# Altium footprint library STM32_PCB_Design.PcbLib: 13 footprints
Each footprint in its own frame and in the unit in brackets; x right, y up, seen from the top. Pads: shape width x height; smd on the part's side, far side on the other; paste and mask are expansions set on the pad; w line width, h text height; cw(c..) or ccw(c..) is an arc to the next point about the centre after c.
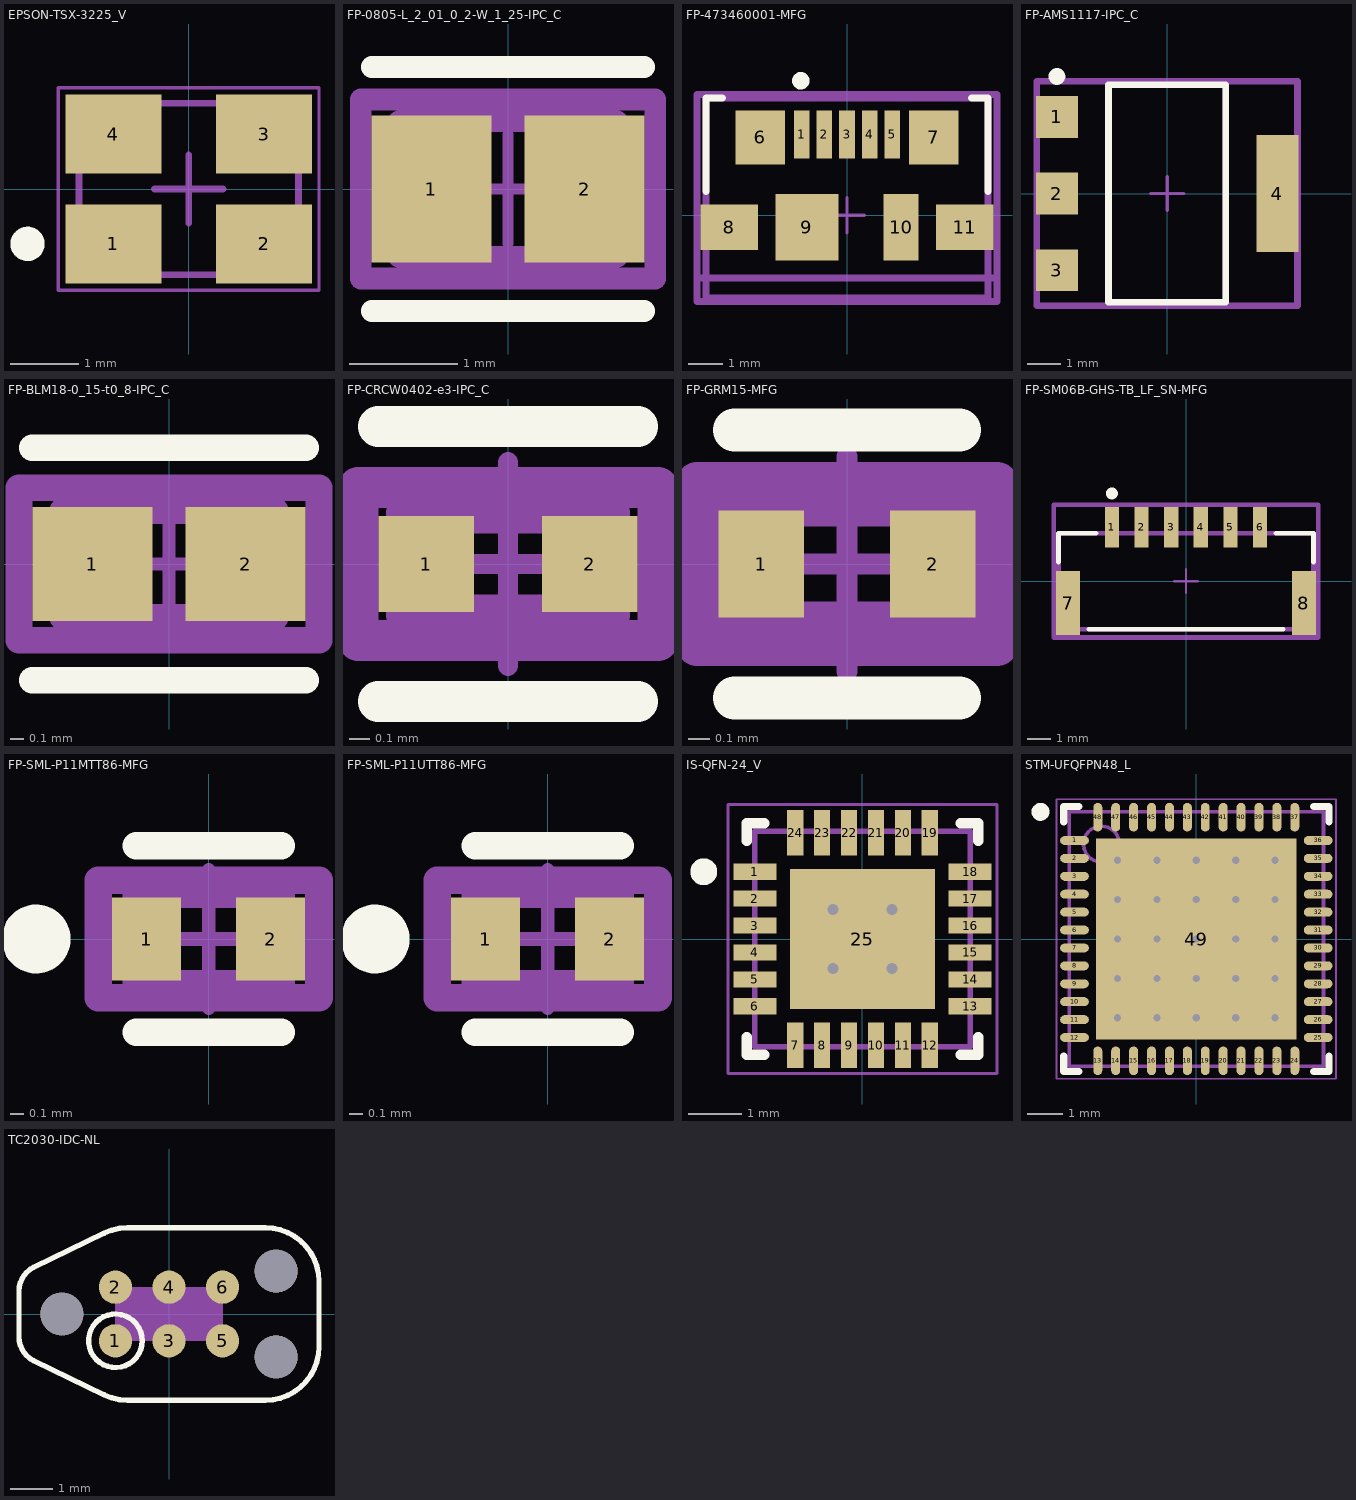
[diagram p0: the footprints below, top view; thin cyan lines are the x and y axes]

## EPSON-TSX-3225_V [mm] "SMD, 4-Leads, Body 3.2x2.5mm"
height 0.6
pads (4):
  rect 1.4x1.15 smd: 1(-1.1,-0.8) 2(1.1,-0.8) 3(1.1,0.8) 4(-1.1,0.8)
Top Overlay:
  circle w0.25: c-2.35,-0.8 r0.125
Top 3D Body:
  lines w0.1: -1.6,-1.25 -1.6,1.25 1.6,1.25 1.6,-1.25 -1.6,-1.25
Top Courtyard:
  lines w0.05: -1.9,-1.475 1.9,-1.475 1.9,1.475 -1.9,1.475 -1.9,-1.475
  lines w0.1: -0.5,0 0.5,0 ; 0,-0.5 0,0.5
3D body: height 0.6, standoff 0, extent -1.6,-1.25 1.6,1.25

## FP-0805-L_2_01_0_2-W_1_25-IPC_C [mm]
height 5.08
pads (2):
  rect 1.105x1.356 smd paste+0 mask+0: 1(-0.706,0) 2(0.706,0)
Top Overlay:
  lines w0.2: -1.258,-1.125 1.258,-1.125 ; -1.258,1.125 1.258,1.125
Top Assembly:
  lines w0.2: -1.358,-0.825 1.358,-0.825 1.358,0.825 -1.358,0.825 -1.358,-0.825
  text ".Designator" at 0,0.188 h1
Top 3D Body:
  lines w0.2: -1.005,-0.625 1.005,-0.625 1.005,0.625 -1.005,0.625 -1.005,-0.625
Top Courtyard:
  lines w0.2: -1.358,-0.825 1.358,-0.825 1.358,0.825 -1.358,0.825 -1.358,-0.825
Top Component Center:
  lines w0.1: -0.5,0 0.5,0 ; 0,-0.5 0,0.5
3D body "Cap_AVX_0805YA0R5BAT2A_eec.STEP": height 0.25, standoff 0, extent -1.358,-0.825 1.358,0.825

## FP-473460001-MFG [mm]
height 5.08
pads (11):
  rect 0.45x1.38 smd paste+0 mask+0: 1(-1.3,2.31) 2(-0.65,2.31) 3(0,2.31) 4(0.65,2.31) 5(1.3,2.31)
  rect 1.425x1.55 smd paste+0 mask+0: 6(-2.488,2.225) 7(2.488,2.225)
  rect 1.65x1.3 smd paste+0 mask+0: 8(-3.375,-0.35) 11(3.375,-0.35)
  rect 1.8x1.9 smd paste+0 mask+0: 9(-1.15,-0.35)
  rect 1x1.9 smd paste+0 mask+0: 10(1.55,-0.35)
Top Overlay:
  circle w0.25: c-1.325,3.85 r0.125
  lines w0.2: -4.045,0.675 -4.045,3.35 -3.575,3.35 ; 3.575,3.35 4.045,3.35 4.045,0.675
Top Assembly:
  lines w0.2: -4.3,-2.48 -4.3,3.45 4.3,3.45 4.3,-2.48 -4.3,-2.48
  text ".Designator" at 0,0.673 h1
Top 3D Body:
  lines w0.2: -4.3,-1.8 4.3,-1.8 ; -4.045,-2.38 -4.045,3.35 4.045,3.35 4.045,-2.38 -4.045,-2.38
Top Courtyard:
  lines w0.2: -4.3,-2.48 -4.3,3.45 4.3,3.45 4.3,-2.48 -4.3,-2.48
Top Component Center:
  lines w0.1: -0.5,0 0.5,0 ; 0,-0.5 0,0.5
3D body "Conn_Molex_473460001_eec.STEP": height 0.25, standoff 0, extent -4.3,-2.48 4.3,3.45

## FP-AMS1117-IPC_C [mm]
height 5.08
pads (4):
  rect 1.25x1.25 smd paste+0 mask+0: 1(-3.295,2.29) 2(-3.295,0) 3(-3.295,-2.29)
  rect 1.25x3.5 smd paste+0 mask+0: 4(3.295,0)
Top Overlay:
  circle w0.25: c-3.295,3.5 r0.125
  lines w0.2: -1.753,-3.253 1.753,-3.253 1.753,3.253 -1.753,3.253 -1.753,-3.253
Top Assembly:
  lines w0.2: -3.897,-3.353 3.897,-3.353 3.897,3.353 -3.897,3.353 -3.897,-3.353
  text ".Designator" at 0,0.188 h1
Top 3D Body:
  lines w0.2: -1.753,-3.253 1.753,-3.253 1.753,3.253 -1.753,3.253 -1.753,-3.253
Top Courtyard:
  lines w0.2: -3.897,-3.353 3.897,-3.353 3.897,3.353 -3.897,3.353 -3.897,-3.353
Top Component Center:
  lines w0.1: -0.5,0 0.5,0 ; 0,-0.5 0,0.5
3D body "IC_Advanced_Monolithic_Systems_AMS1117-3_3_eec.STEP": height 0.25, standoff 0, extent -3.897,-3.353 3.897,3.353

## FP-BLM18-0_15-t0_8-IPC_C [mm]
height 5.08
pads (2):
  rect 0.906x0.858 smd paste+0 mask+0: 1(-0.576,0) 2(0.576,0)
Top Overlay:
  lines w0.2: -1.029,-0.875 1.029,-0.875 ; -1.029,0.875 1.029,0.875
Top Assembly:
  lines w0.2: -1.129,-0.575 1.129,-0.575 1.129,0.575 -1.129,0.575 -1.129,-0.575
  text ".Designator" at 0,0.188 h1
Top 3D Body:
  lines w0.2: -0.8,-0.4 0.8,-0.4 0.8,0.4 -0.8,0.4 -0.8,-0.4
Top Courtyard:
  lines w0.2: -1.129,-0.575 1.129,-0.575 1.129,0.575 -1.129,0.575 -1.129,-0.575
Top Component Center:
  lines w0.1: -0.5,0 0.5,0 ; 0,-0.5 0,0.5
3D body "FBead_Murata_BLM18EG221SN1D_eec.STEP": height 0.25, standoff 0, extent -1.129,-0.575 1.129,0.575

## FP-CRCW0402-e3-IPC_C [mm]
height 5.08
pads (2):
  rect 0.468x0.472 smd paste+0 mask+0: 1(-0.402,0) 2(0.402,0)
Top Overlay:
  lines w0.2: -0.636,-0.675 0.636,-0.675 ; -0.636,0.675 0.636,0.675
Top Assembly:
  lines w0.2: -0.736,-0.375 0.736,-0.375 0.736,0.375 -0.736,0.375 -0.736,-0.375
  text ".Designator" at 0,0.188 h1
Top 3D Body:
  lines w0.2: -0.5,-0.25 0.5,-0.25 0.5,0.25 -0.5,0.25 -0.5,-0.25
Top Courtyard:
  lines w0.2: -0.736,-0.375 0.736,-0.375 0.736,0.375 -0.736,0.375 -0.736,-0.375
Top Component Center:
  lines w0.1: -0.5,0 0.5,0 ; 0,-0.5 0,0.5
3D body "Res_Vishay_CRCW04021K00FKED_eec.STEP": height 0.25, standoff 0, extent -0.736,-0.375 0.736,0.375

## FP-GRM15-MFG [mm]
height 5.08
pads (2):
  rect 0.4x0.5 smd paste+0 mask+0: 1(-0.4,0) 2(0.4,0)
Top Overlay:
  lines w0.2: -0.525,-0.625 0.525,-0.625 ; -0.525,0.625 0.525,0.625
Top Assembly:
  lines w0.2: -0.7,-0.375 -0.7,0.375 0.7,0.375 0.7,-0.375 -0.7,-0.375
  text ".Designator" at 0,0.188 h1
Top 3D Body:
  lines w0.2: -0.525,-0.275 -0.525,0.275 0.525,0.275 0.525,-0.275 -0.525,-0.275
Top Courtyard:
  lines w0.2: -0.7,-0.375 -0.7,0.375 0.7,0.375 0.7,-0.375 -0.7,-0.375
Top Component Center:
  lines w0.1: -0.5,0 0.5,0 ; 0,-0.5 0,0.5
3D body "Cap_Murata_GRM155R71C104KA88D_eec.STEP": height 0.25, standoff 0, extent -0.7,-0.375 0.7,0.375

## FP-SM06B-GHS-TB_LF_SN-MFG [mm]
height 5.08
pads (8):
  rect 0.6x1.7 smd paste+0 mask+0: 1(-3.125,2.275) 2(-1.875,2.275) 3(-0.625,2.275) 4(0.625,2.275) 5(1.875,2.275) 6(3.125,2.275)
  rect 1x2.7 smd paste+0 mask+0: 7(-4.975,-0.925) 8(4.975,-0.925)
Top Overlay:
  circle w0.25: c-3.125,3.7 r0.125
  lines w0.2: -5.375,0.8 -5.375,2.025 -3.8,2.025 ; -4.1,-2.025 4.1,-2.025 ; 3.8,2.025 5.375,2.025 5.375,0.8
Top Assembly:
  lines w0.2: -5.575,-2.375 -5.575,3.225 5.575,3.225 5.575,-2.375 -5.575,-2.375
  text ".Designator" at 0,0.613 h1
Top 3D Body:
  lines w0.2: -5.375,-2.025 -5.375,2.025 5.375,2.025 5.375,-2.025 -5.375,-2.025
Top Courtyard:
  lines w0.2: -5.575,-2.375 -5.575,3.225 5.575,3.225 5.575,-2.375 -5.575,-2.375
Top Component Center:
  lines w0.1: -0.5,0 0.5,0 ; 0,-0.5 0,0.5
3D body "Conn_JST_SM06B-GHS-TB_LF_SN_eec.STEP": height 0.25, standoff 0, extent -5.575,-2.375 5.575,3.225

## FP-SML-P11MTT86-MFG [mm]
height 5.08
pads (2):
  rect 0.5x0.6 smd paste+0 mask+0: 1(-0.45,0) 2(0.45,0)
Top Overlay:
  circle w0.25: c-1.25,0 r0.125
  lines w0.2: -0.525,-0.675 0.525,-0.675 ; -0.525,0.675 0.525,0.675
Top Assembly:
  lines w0.2: -0.8,-0.425 -0.8,0.425 0.8,0.425 0.8,-0.425 -0.8,-0.425
  text ".Designator" at 0,-0.001 h1
Top 3D Body:
  lines w0.2: -0.525,-0.325 -0.525,0.325 0.525,0.325 0.525,-0.325 -0.525,-0.325
Top Courtyard:
  lines w0.2: -0.8,-0.425 -0.8,0.425 0.8,0.425 0.8,-0.425 -0.8,-0.425
Top Component Center:
  lines w0.1: -0.5,0 0.5,0 ; 0,-0.5 0,0.5
3D body "Diode_ROHM_SML-P11MTT86_eec.STEP": height 0.25, standoff 0, extent -0.8,-0.425 0.8,0.425

## FP-SML-P11UTT86-MFG [mm]
height 5.08
pads (2):
  rect 0.5x0.6 smd paste+0 mask+0: 1(-0.45,0) 2(0.45,0)
Top Overlay:
  circle w0.25: c-1.25,0 r0.125
  lines w0.2: -0.525,-0.675 0.525,-0.675 ; -0.525,0.675 0.525,0.675
Top Assembly:
  lines w0.2: -0.8,-0.425 -0.8,0.425 0.8,0.425 0.8,-0.425 -0.8,-0.425
  text ".Designator" at 0,-0.001 h1
Top 3D Body:
  lines w0.2: -0.525,-0.325 -0.525,0.325 0.525,0.325 0.525,-0.325 -0.525,-0.325
Top Courtyard:
  lines w0.2: -0.8,-0.425 -0.8,0.425 0.8,0.425 0.8,-0.425 -0.8,-0.425
Top Component Center:
  lines w0.1: -0.5,0 0.5,0 ; 0,-0.5 0,0.5
3D body "Diode_ROHM_SML-P11UTT86_eec.STEP": height 0.25, standoff 0, extent -0.8,-0.425 0.8,0.425

## IS-QFN-24_V [mm] "QFN, 24-Leads, Body 4x4mm, Pitch 0.5mm, Thermal Pad 2.7x2.6mm"
height 0.95
pads (25):
  rect 0.8x0.3 smd: 1(-2,1.25) 2(-2,0.75) 3(-2,0.25) 4(-2,-0.25) 5(-2,-0.75) 6(-2,-1.25) 13(2,-1.25) 14(2,-0.75) 15(2,-0.25) 16(2,0.25) 17(2,0.75) 18(2,1.25)
  rect 0.3x0.85 smd mask+0.102: 7(-1.25,-1.975) 8(-0.75,-1.975) 9(-0.25,-1.975) 10(0.25,-1.975) 11(0.75,-1.975) 12(1.25,-1.975) 19(1.25,1.975) 20(0.75,1.975) 21(0.25,1.975) 22(-0.25,1.975) 23(-0.75,1.975) 24(-1.25,1.975)
  rect 2.7x2.6 smd: 25(0,0)
via -0.55,-0.55 diameter 0.5 hole 0.2
via 0.55,-0.55 diameter 0.5 hole 0.2
via 0.55,0.55 diameter 0.5 hole 0.2
via -0.55,0.55 diameter 0.5 hole 0.2
Top Overlay:
  circle w0.25: c-2.95,1.25 r0.125
  lines w0.2: -2.15,-1.825 -2.15,-2.15 -1.825,-2.15 ; -2.15,1.825 -2.15,2.15 -1.825,2.15 ; 1.825,-2.15 2.15,-2.15 2.15,-1.825 ; 1.825,2.15 2.15,2.15 2.15,1.825
Top 3D Body:
  lines w0.1: -2,-2 -2,2 2,2 2,-2 -2,-2
Top Courtyard:
  lines w0.05: -2.5,-2.5 2.5,-2.5 2.5,2.5 -2.5,2.5 -2.5,-2.5
  lines w0.1: -0.5,0 0.5,0 ; 0,-0.5 0,0.5
3D body: height 0.95, standoff 0, extent -1.999,-1.999 1.999,1.999

## STM-UFQFPN48_L [mm] "QFN, 48-Leads, Body 7.1x7.1mm, Pitch 0.5mm, Thermal Pad 5.6x5.6mm, IPC High Density"
height 0.6
pads (49):
  oval 0.8x0.25 smd: 1(-3.4,2.75) 2(-3.4,2.25) 3(-3.4,1.75) 4(-3.4,1.25) 5(-3.4,0.75) 6(-3.4,0.25) 7(-3.4,-0.25) 8(-3.4,-0.75) 9(-3.4,-1.25) 10(-3.4,-1.75) 11(-3.4,-2.25) 12(-3.4,-2.75) 25(3.4,-2.75) 26(3.4,-2.25) 27(3.4,-1.75) 28(3.4,-1.25) 29(3.4,-0.75) 30(3.4,-0.25) 31(3.4,0.25) 32(3.4,0.75) 33(3.4,1.25) 34(3.4,1.75) 35(3.4,2.25) 36(3.4,2.75)
  oval 0.25x0.8 smd: 13(-2.75,-3.4) 14(-2.25,-3.4) 15(-1.75,-3.4) 16(-1.25,-3.4) 17(-0.75,-3.4) 18(-0.25,-3.4) 19(0.25,-3.4) 20(0.75,-3.4) 21(1.25,-3.4) 22(1.75,-3.4) 23(2.25,-3.4) 24(2.75,-3.4) 37(2.75,3.4) 38(2.25,3.4) 39(1.75,3.4) 40(1.25,3.4) 41(0.75,3.4) 42(0.25,3.4) 43(-0.25,3.4) 44(-0.75,3.4) 45(-1.25,3.4) 46(-1.75,3.4) 47(-2.25,3.4) 48(-2.75,3.4)
  rect 5.6x5.6 smd: 49(0,0)
via 2.2,-2.2 diameter 0.5 hole 0.2
via 1.1,-2.2 diameter 0.5 hole 0.2
via 0,-2.2 diameter 0.5 hole 0.2
via -1.1,-2.2 diameter 0.5 hole 0.2
via 2.2,-1.1 diameter 0.5 hole 0.2
via 1.1,-1.1 diameter 0.5 hole 0.2
via 0,-1.1 diameter 0.5 hole 0.2
via -1.1,-1.1 diameter 0.5 hole 0.2
via -2.2,-1.1 diameter 0.5 hole 0.2
via 2.2,0 diameter 0.5 hole 0.2
via 1.1,0 diameter 0.5 hole 0.2
via 0,0 diameter 0.5 hole 0.2
via -1.1,0 diameter 0.5 hole 0.2
via -2.2,0 diameter 0.5 hole 0.2
via 2.2,1.1 diameter 0.5 hole 0.2
via 1.1,1.1 diameter 0.5 hole 0.2
via 0,1.1 diameter 0.5 hole 0.2
via -1.1,1.1 diameter 0.5 hole 0.2
via -2.2,1.1 diameter 0.5 hole 0.2
via 2.2,2.2 diameter 0.5 hole 0.2
via 1.1,2.2 diameter 0.5 hole 0.2
via 0,2.2 diameter 0.5 hole 0.2
via -1.1,2.2 diameter 0.5 hole 0.2
via -2.2,2.2 diameter 0.5 hole 0.2
via -2.2,-2.2 diameter 0.5 hole 0.2
Top Overlay:
  circle w0.25: c-4.35,3.55 r0.125
  lines w0.2: -3.7,-3.275 -3.7,-3.7 -3.275,-3.7 ; -3.7,3.275 -3.7,3.7 -3.275,3.7 ; 3.275,-3.7 3.7,-3.7 3.7,-3.275 ; 3.275,3.7 3.7,3.7 3.7,3.275
Top 3D Body:
  circle w0.1: c-2.65,2.65 r0.5
  lines w0.1: -3.55,-3.55 3.55,-3.55 3.55,3.55 -3.55,3.55 -3.55,-3.55
Top Courtyard:
  lines w0.05: -3.9,-3.9 3.9,-3.9 3.9,3.9 -3.9,3.9 -3.9,-3.9
  lines w0.1: -0.5,0 0.5,0 ; 0,-0.5 0,0.5
3D body: height 0.6, standoff 0, extent -3.55,-3.55 3.55,3.55

## TC2030-IDC-NL [mil]
height 200
pads (9):
  round 31 smd paste-39.37: 1(-50,-25) 2(-50,25) 3(0,-25) 4(0,25) 5(50,-25) 6(50,25)
  round 40 hole 40 unplated: ""(-100,0) ""(100,-40) ""(100,40)
Top Overlay:
  circle w5: c-50,-25 r25
  lines w5: -125.96,-43.79 cw(c-115,-21.32) -140,-21.32 -140,21.32 cw(c-115,21.32) -125.96,43.79 ; -125.88,-43.83 -60.31,-75.52 ; -125.88,43.83 -60.31,75.52 ; -60.47,-75.44 ccw(c-38.55,-30.5) -38.55,-80.5 90,-80.5 ccw(c90,-30.5) 140,-30.5 140,30.5 ccw(c90,30.5) 90,80.5 -38.55,80.5 ccw(c-38.55,30.5) -60.47,75.44
Top Courtyard:
  region: 50,-25 -50,-25 -50,25 50,25